# EAGLE library part AD5686RARUZ (library puggleboard)
16-bit DAC
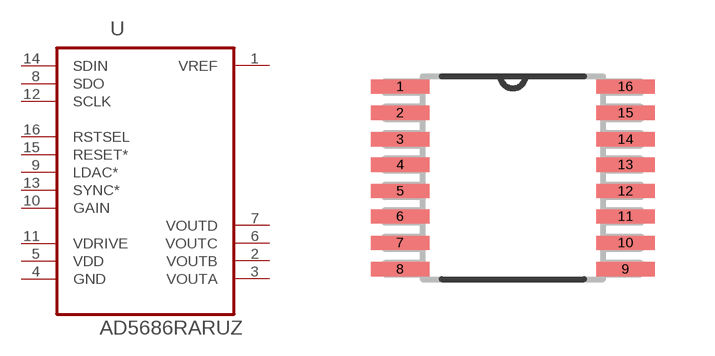
[diagram p8: symbol with the pads of MO-153-AB; footprint MO-153-AB]

Designator prefix -

## AD5686RARUZ  [MO-153-AB]
1  VREF  pas
2  VOUTB  pas
3  VOUTA  pas
4  GND  pas
5  VDD  pwr
6  VOUTC  pas
7  VOUTD  pas
8  SDO  pas
9  LDAC*  pas
10  GAIN  pas
11  VDRIVE  pas
12  SCLK  pas
13  SYNC*  pas
14  SDIN  pas
15  RESET*  pas
16  RSTSEL  pas

## Footprint MO-153-AB (pad centres in mm)
smd 1.473 x 0.356: 1 -2.819,2.286; 2 -2.819,1.626; 3 -2.819,0.965; 4 -2.819,0.33; 5 -2.819,-0.33; 6 -2.819,-0.965; 7 -2.819,-1.626; 8 -2.819,-2.286; 9 2.819,-2.286; 10 2.819,-1.626; 11 2.819,-0.965; 12 2.819,-0.33; 13 2.819,0.33; 14 2.819,0.965; 15 2.819,1.626; 16 2.819,2.286